# Altium footprint library ESPRESSIF_ESP32-DEVKITC-32UE.PcbLib: 3 footprints
Each footprint in its own frame and in the unit in brackets; x right, y up, seen from the top. Pads: shape width x height; smd on the part's side, far side on the other; paste and mask are expansions set on the pad; w line width, h text height; cw(c..) or ccw(c..) is an arc to the next point about the centre after c.
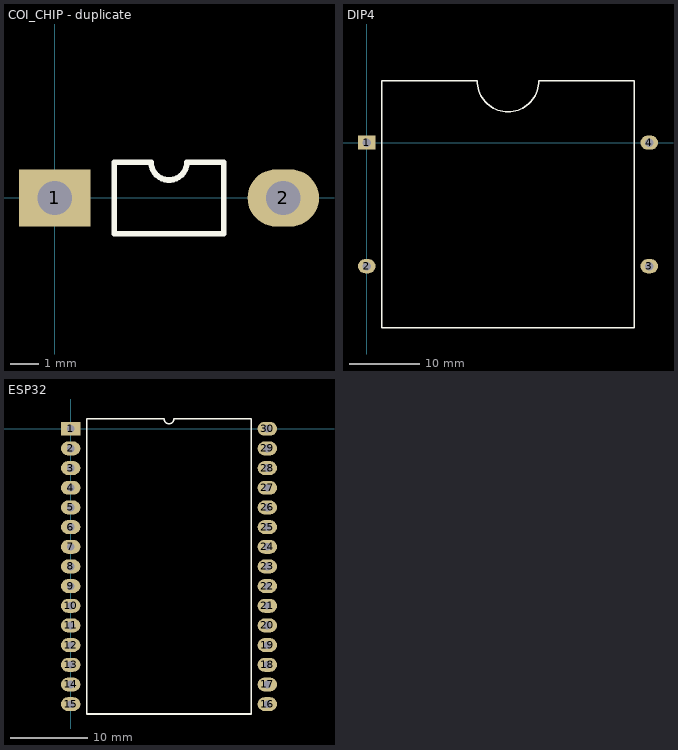
[diagram p0: the footprints below, top view; thin cyan lines are the x and y axes]

## COI_CHIP - duplicate [mm]
pads (2):
  rect 2.5x2 hole 1.2: 1(0,0)
  oval 2.5x2 hole 1.2: 2(8,0)
Top Overlay:
  lines w0.2: 2.085,-1.25 2.085,1.25 3.375,1.25 ccw(c4,1.25) 4.625,1.25 5.915,1.25 5.915,-1.25 2.085,-1.25
3D body "9x12 Buzzer.step": height 10.7, standoff -4.7, extent -2.192,-5.934 9.558,5.816

## DIP4 [mm]
pads (4):
  rect 2.5x2 hole 1.2: 1(0,0)
  oval 2.5x2 hole 1.2: 2(0,-17.5) 3(40,-17.5) 4(40,0)
Top Overlay:
  lines w0.2: 2.085,-26.25 2.085,8.75 15.625,8.75 ccw(c20,8.75) 24.375,8.75 37.915,8.75 37.915,-26.25 2.085,-26.25
3D body "LM2596 DC-DC stepdown voltage converter.STEP": height 11.5, standoff -0.2, extent -1.905,-18.801 41.595,2.799

## ESP32 [mm]
pads (30):
  rect 2.5x1.8 hole 1: 1(0,0)
  oval 2.5x1.8 hole 1: 2(0,-2.54) 3(0,-5.08) 4(0,-7.62) 5(0,-10.16) 6(0,-12.7) 7(0,-15.24) 8(0,-17.78) 9(0,-20.32) 10(0,-22.86) 11(0,-25.4) 12(0,-27.94) 13(0,-30.48) 14(0,-33.02) 15(0,-35.56) 16(25.4,-35.56) 17(25.4,-33.02) 18(25.4,-30.48) 19(25.4,-27.94) 20(25.4,-25.4) 21(25.4,-22.86) 22(25.4,-20.32) 23(25.4,-17.78) 24(25.4,-15.24) 25(25.4,-12.7) 26(25.4,-10.16) 27(25.4,-7.62) 28(25.4,-5.08) 29(25.4,-2.54) 30(25.4,0)
Top Overlay:
  lines w0.2: 2.085,-36.83 23.315,-36.83 23.315,1.27 13.335,1.27 cw(c12.7,1.27) 12.065,1.27 2.085,1.27 2.085,-36.83
3D body "ESP-32_v1.STEP": height 10.2, standoff -2.2, extent -1.524,-40.959 26.976,9.971